# Altium footprint library nRF24LE1F16Q32.PcbLib: 3 footprints
Each footprint in its own frame and in the unit in brackets; x right, y up, seen from the top. Pads: shape width x height; smd on the part's side, far side on the other; paste and mask are expansions set on the pad; w line width, h text height; cw(c..) or ccw(c..) is an arc to the next point about the centre after c.
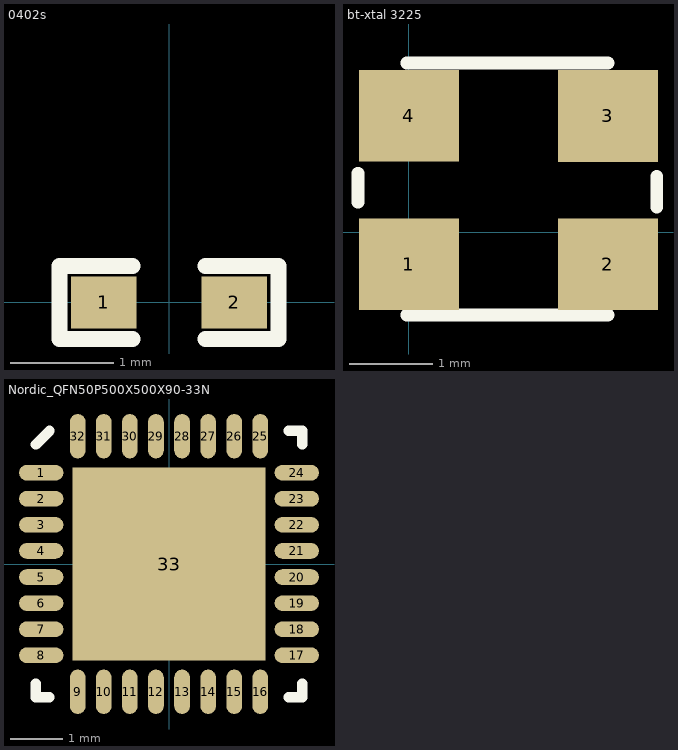
[diagram p0: the footprints below, top view; thin cyan lines are the x and y axes]

## 0402s [mil]
height 19.68
pads (2):
  rect 25x20 smd: 1(-25,0) 2(25,0)
Top Overlay:
  lines w6: -14,-14 -42,-14 -42,14 -14,14 ; 14,-14 42,-14 42,14 14,14

## bt-xtal 3225 [mm] "Mercury X32 series"
pads (4):
  rect 1.2x1.1 smd: 1(0,-0.381) 2(2.388,-0.381) 3(2.388,1.397) 4(0,1.4)
Top Overlay:
  lines w0.152: -0.61,0.361 -0.61,0.711 ; -0.025,-0.991 2.388,-0.991 ; -0.025,2.032 2.388,2.032 ; 2.972,0.305 2.972,0.675

## Nordic_QFN50P500X500X90-33N [mm] "QFN32 5x5x0.85mm, 0.5mm pitch - Medium Density"
height 0.85
pads (33):
  oval 0.85x0.3 smd: 1(-2.45,1.75) 2(-2.45,1.25) 3(-2.45,0.75) 4(-2.45,0.25) 5(-2.45,-0.25) 6(-2.45,-0.75) 7(-2.45,-1.25) 8(-2.45,-1.75) 17(2.45,-1.75) 18(2.45,-1.25) 19(2.45,-0.75) 20(2.45,-0.25) 21(2.45,0.25) 22(2.45,0.75) 23(2.45,1.25) 24(2.45,1.75)
  oval 0.3x0.85 smd: 9(-1.75,-2.45) 10(-1.25,-2.45) 11(-0.75,-2.45) 12(-0.25,-2.45) 13(0.25,-2.45) 14(0.75,-2.45) 15(1.25,-2.45) 16(1.75,-2.45) 25(1.75,2.45) 26(1.25,2.45) 27(0.75,2.45) 28(0.25,2.45) 29(-0.25,2.45) 30(-0.75,2.45) 31(-1.25,2.45) 32(-1.75,2.45)
  rect 3.7x3.7 smd: 33(0,0)
Top Overlay:
  lines w0.2: -2.55,-2.29 -2.55,-2.55 -2.29,-2.55 ; -2.55,2.29 -2.29,2.55 ; 2.29,-2.55 2.55,-2.55 2.55,-2.29 ; 2.29,2.55 2.55,2.55 2.55,2.29